# Altium footprint library 322525MSR.PcbLib: 1 footprints
Each footprint in its own frame and in the unit in brackets; x right, y up, seen from the top. Pads: shape width x height; smd on the part's side, far side on the other; paste and mask are expansions set on the pad; w line width, h text height; cw(c..) or ccw(c..) is an arc to the next point about the centre after c.
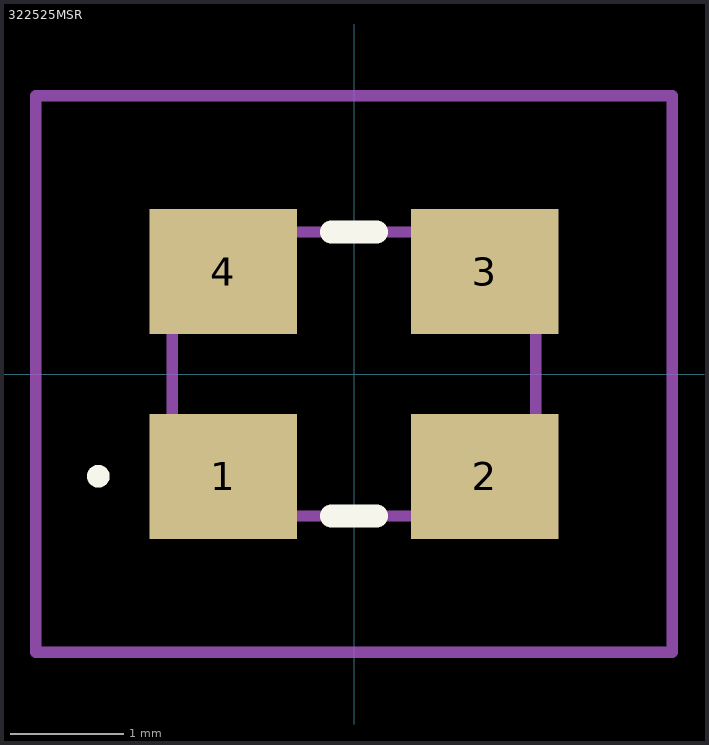
[diagram p0: the footprint, top view; thin cyan lines are the x and y axes]

## 322525MSR [mm]
pads (4):
  rect 1.3x1.1 smd: 1(-1.15,-0.9) 2(1.15,-0.9) 3(1.15,0.9) 4(-1.15,0.9)
Top Overlay:
  lines w0.1: -2.3,-0.9 -2.3,-0.9 ; -2.3,-0.9 ccw(c-2.25,-0.9) -2.2,-0.9 ; -2.3,-0.9 cw(c-2.25,-0.9) -2.2,-0.9 ; -2.2,-0.9 -2.2,-0.9
  lines w0.2: -0.2,-1.25 0.2,-1.25 ; -0.2,1.25 0.2,1.25
Mechanical 15:
  lines w0.1: -1.6,-1.25 1.6,-1.25 1.6,1.25 -1.6,1.25 -1.6,-1.25
Mechanical 20:
  lines w0.1: -2.8,-2.45 2.8,-2.45 2.8,2.45 -2.8,2.45 -2.8,-2.45